# Altium schematic symbol library K60_144.SchLib: 2 symbols
Pins are listed as number, name and electrical type; pins without a type are passive.

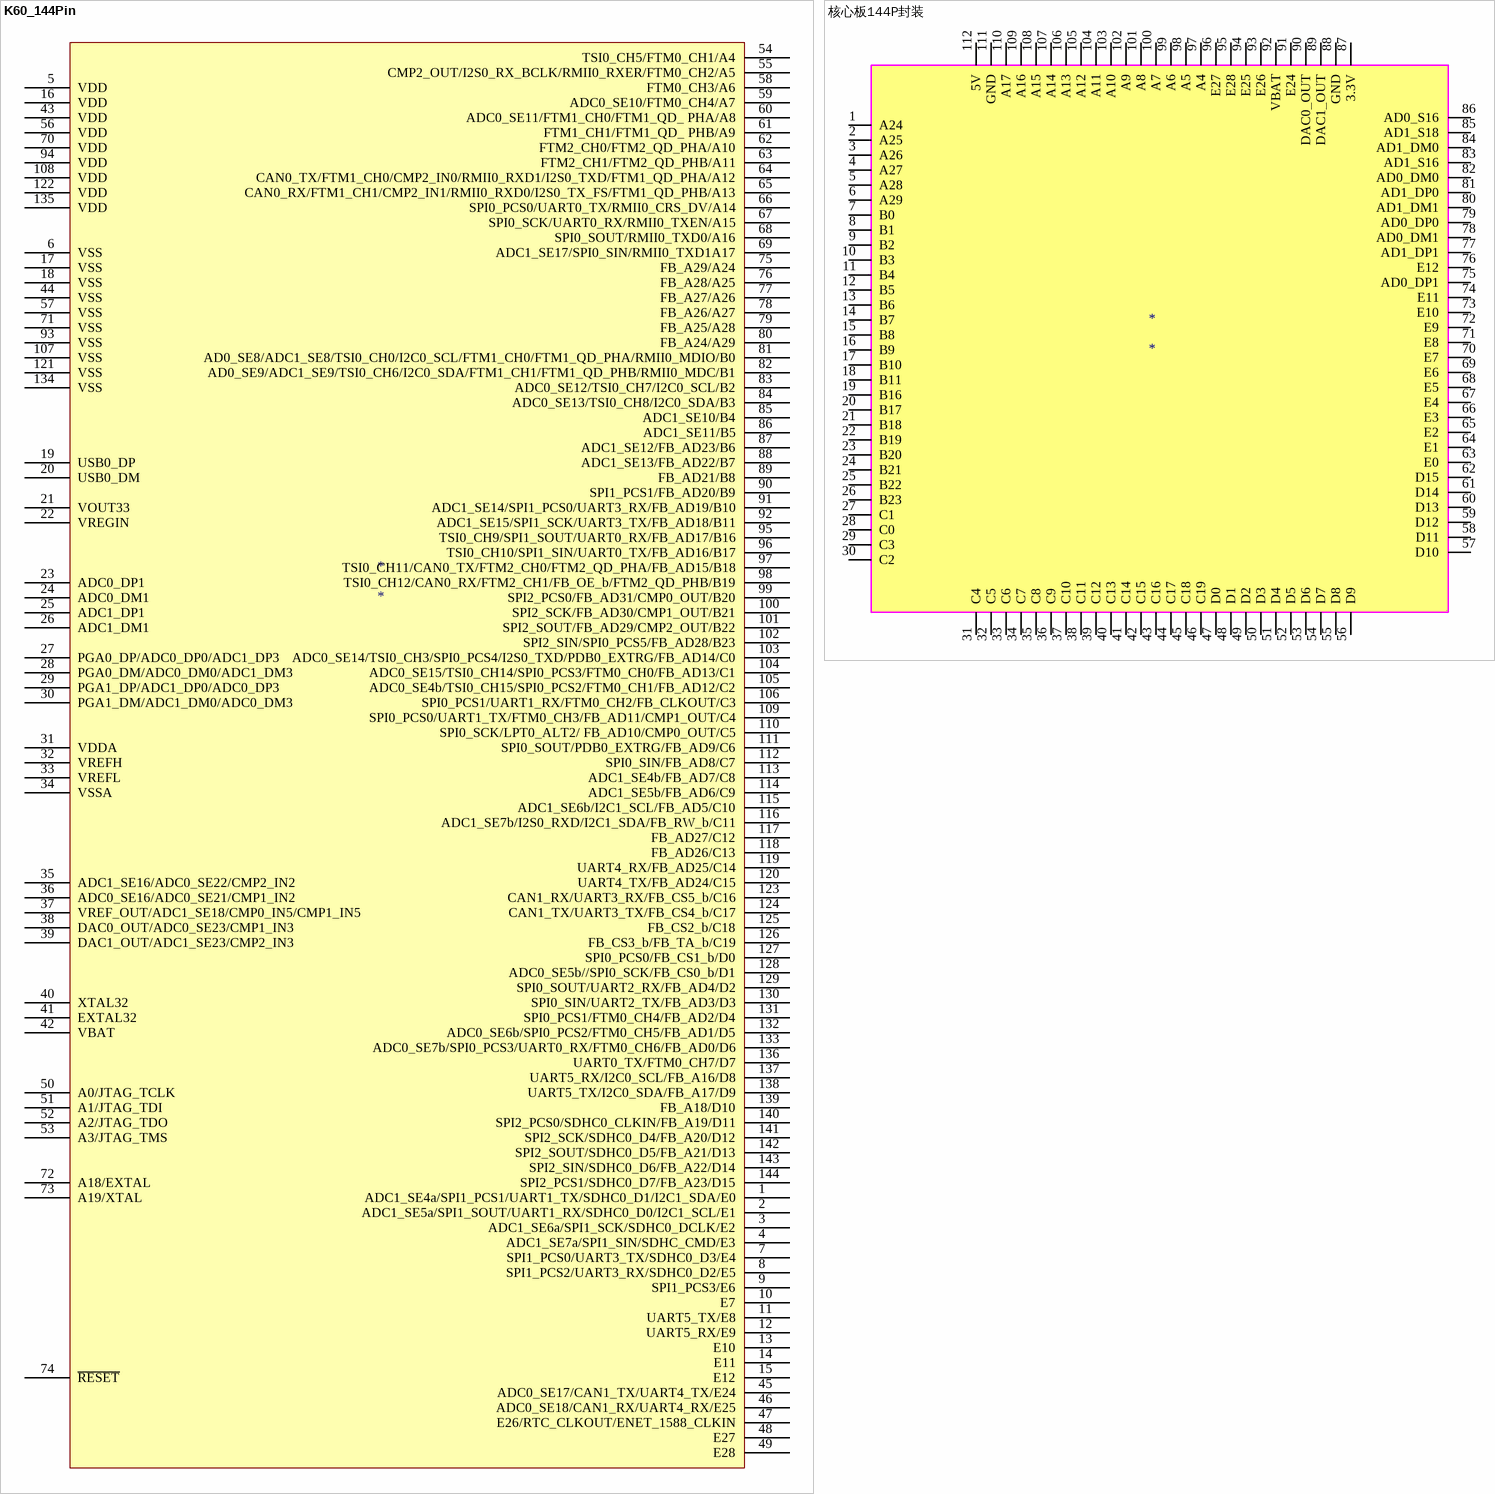
[diagram p0: symbols K60_144Pin to 核心板144P封装]

## K60_144Pin
designator *
pins: 1 ADC1_SE4a/SPI1_PCS1/UART1_TX/SDHC0_D1/I2C1_SDA/E0, 2 ADC1_SE5a/SPI1_SOUT/UART1_RX/SDHC0_D0/I2C1_SCL/E1, 3 ADC1_SE6a/SPI1_SCK/SDHC0_DCLK/E2, 4 ADC1_SE7a/SPI1_SIN/SDHC_CMD/E3, 5 VDD, 6 VSS, 7 SPI1_PCS0/UART3_TX/SDHC0_D3/E4, 8 SPI1_PCS2/UART3_RX/SDHC0_D2/E5, 9 SPI1_PCS3/E6, 10 E7, 11 UART5_TX/E8, 12 UART5_RX/E9, 13 E10, 14 E11, 15 E12, 16 VDD, 17 VSS, 18 VSS, 19 USB0_DP, 20 USB0_DM, 21 VOUT33, 22 VREGIN, 23 ADC0_DP1, 24 ADC0_DM1, 25 ADC1_DP1, 26 ADC1_DM1, 27 PGA0_DP/ADC0_DP0/ADC1_DP3, 28 PGA0_DM/ADC0_DM0/ADC1_DM3, 29 PGA1_DP/ADC1_DP0/ADC0_DP3, 30 PGA1_DM/ADC1_DM0/ADC0_DM3, 31 VDDA, 32 VREFH, 33 VREFL, 34 VSSA, 35 ADC1_SE16/ADC0_SE22/CMP2_IN2, 36 ADC0_SE16/ADC0_SE21/CMP1_IN2, 37 VREF_OUT/ADC1_SE18/CMP0_IN5/CMP1_IN5, 38 DAC0_OUT/ADC0_SE23/CMP1_IN3, 39 DAC1_OUT/ADC1_SE23/CMP2_IN3, 40 XTAL32, 41 EXTAL32, 42 VBAT, 43 VDD, 44 VSS, 45 ADC0_SE17/CAN1_TX/UART4_TX/E24, 46 ADC0_SE18/CAN1_RX/UART4_RX/E25, 47 E26/RTC_CLKOUT/ENET_1588_CLKIN, 48 E27, 49 E28, 50 A0/JTAG_TCLK, 51 A1/JTAG_TDI, 52 A2/JTAG_TDO, 53 A3/JTAG_TMS, 54 TSI0_CH5/FTM0_CH1/A4, 55 CMP2_OUT/I2S0_RX_BCLK/RMII0_RXER/FTM0_CH2/A5, 56 VDD, 57 VSS, 58 FTM0_CH3/A6, 59 ADC0_SE10/FTM0_CH4/A7, 60 ADC0_SE11/FTM1_CH0/FTM1_QD_ PHA/A8, 61 FTM1_CH1/FTM1_QD_ PHB/A9, 62 FTM2_CH0/FTM2_QD_PHA/A10, 63 FTM2_CH1/FTM2_QD_PHB/A11, 64 CAN0_TX/FTM1_CH0/CMP2_IN0/RMII0_RXD1/I2S0_TXD/FTM1_QD_PHA/A12, 65 CAN0_RX/FTM1_CH1/CMP2_IN1/RMII0_RXD0/I2S0_TX_FS/FTM1_QD_PHB/A13, 66 SPI0_PCS0/UART0_TX/RMII0_CRS_DV/A14, 67 SPI0_SCK/UART0_RX/RMII0_TXEN/A15, 68 SPI0_SOUT/RMII0_TXD0/A16, 69 ADC1_SE17/SPI0_SIN/RMII0_TXD1A17, 70 VDD, 71 VSS, 72 A18/EXTAL, 73 A19/XTAL, 74 ~{RESET}, 75 FB_A29/A24, 76 FB_A28/A25, 77 FB_A27/A26, 78 FB_A26/A27, 79 FB_A25/A28, 80 FB_A24/A29, 81 AD0_SE8/ADC1_SE8/TSI0_CH0/I2C0_SCL/FTM1_CH0/FTM1_QD_PHA/RMII0_MDIO/B0, 82 AD0_SE9/ADC1_SE9/TSI0_CH6/I2C0_SDA/FTM1_CH1/FTM1_QD_PHB/RMII0_MDC/B1, 83 ADC0_SE12/TSI0_CH7/I2C0_SCL/B2, 84 ADC0_SE13/TSI0_CH8/I2C0_SDA/B3, 85 ADC1_SE10/B4, 86 ADC1_SE11/B5, 87 ADC1_SE12/FB_AD23/B6, 88 ADC1_SE13/FB_AD22/B7, 89 FB_AD21/B8, 90 SPI1_PCS1/FB_AD20/B9, 91 ADC1_SE14/SPI1_PCS0/UART3_RX/FB_AD19/B10, 92 ADC1_SE15/SPI1_SCK/UART3_TX/FB_AD18/B11, 93 VSS, 94 VDD, 95 TSI0_CH9/SPI1_SOUT/UART0_RX/FB_AD17/B16, 96 TSI0_CH10/SPI1_SIN/UART0_TX/FB_AD16/B17, 97 TSI0_CH11/CAN0_TX/FTM2_CH0/FTM2_QD_PHA/FB_AD15/B18, 98 TSI0_CH12/CAN0_RX/FTM2_CH1/FB_OE_b/FTM2_QD_PHB/B19, 99 SPI2_PCS0/FB_AD31/CMP0_OUT/B20, 100 SPI2_SCK/FB_AD30/CMP1_OUT/B21, 101 SPI2_SOUT/FB_AD29/CMP2_OUT/B22, 102 SPI2_SIN/SPI0_PCS5/FB_AD28/B23, 103 ADC0_SE14/TSI0_CH3/SPI0_PCS4/I2S0_TXD/PDB0_EXTRG/FB_AD14/C0, 104 ADC0_SE15/TSI0_CH14/SPI0_PCS3/FTM0_CH0/FB_AD13/C1, 105 ADC0_SE4b/TSI0_CH15/SPI0_PCS2/FTM0_CH1/FB_AD12/C2, 106 SPI0_PCS1/UART1_RX/FTM0_CH2/FB_CLKOUT/C3, 107 VSS, 108 VDD, 109 SPI0_PCS0/UART1_TX/FTM0_CH3/FB_AD11/CMP1_OUT/C4, 110 SPI0_SCK/LPT0_ALT2/ FB_AD10/CMP0_OUT/C5, 111 SPI0_SOUT/PDB0_EXTRG/FB_AD9/C6, 112 SPI0_SIN/FB_AD8/C7, 113 ADC1_SE4b/FB_AD7/C8, 114 ADC1_SE5b/FB_AD6/C9, 115 ADC1_SE6b/I2C1_SCL/FB_AD5/C10, 116 ADC1_SE7b/I2S0_RXD/I2C1_SDA/FB_RW_b/C11, 117 FB_AD27/C12, 118 FB_AD26/C13, 119 UART4_RX/FB_AD25/C14, 120 UART4_TX/FB_AD24/C15, 121 VSS, 122 VDD, 123 CAN1_RX/UART3_RX/FB_CS5_b/C16, 124 CAN1_TX/UART3_TX/FB_CS4_b/C17, 125 FB_CS2_b/C18, 126 FB_CS3_b/FB_TA_b/C19, 127 SPI0_PCS0/FB_CS1_b/D0, 128 ADC0_SE5b//SPI0_SCK/FB_CS0_b/D1, 129 SPI0_SOUT/UART2_RX/FB_AD4/D2, 130 SPI0_SIN/UART2_TX/FB_AD3/D3, 131 SPI0_PCS1/FTM0_CH4/FB_AD2/D4, 132 ADC0_SE6b/SPI0_PCS2/FTM0_CH5/FB_AD1/D5, 133 ADC0_SE7b/SPI0_PCS3/UART0_RX/FTM0_CH6/FB_AD0/D6, 134 VSS, 135 VDD, 136 UART0_TX/FTM0_CH7/D7, 137 UART5_RX/I2C0_SCL/FB_A16/D8, 138 UART5_TX/I2C0_SDA/FB_A17/D9, 139 FB_A18/D10, 140 SPI2_PCS0/SDHC0_CLKIN/FB_A19/D11, 141 SPI2_SCK/SDHC0_D4/FB_A20/D12, 142 SPI2_SOUT/SDHC0_D5/FB_A21/D13, 143 SPI2_SIN/SDHC0_D6/FB_A22/D14, 144 SPI2_PCS1/SDHC0_D7/FB_A23/D15

## 核心板144P封装
designator *
pins: 1 A24, 2 A25, 3 A26, 4 A27, 5 A28, 6 A29, 7 B0, 8 B1, 9 B2, 10 B3, 11 B4, 12 B5, 13 B6, 14 B7, 15 B8, 16 B9, 17 B10, 18 B11, 19 B16, 20 B17, 21 B18, 22 B19, 23 B20, 24 B21, 25 B22, 26 B23, 27 C1, 28 C0, 29 C3, 30 C2, 31 C4, 32 C5, 33 C6, 34 C7, 35 C8, 36 C9, 37 C10, 38 C11, 39 C12, 40 C13, 41 C14, 42 C15, 43 C16, 44 C17, 45 C18, 46 C19, 47 D0, 48 D1, 49 D2, 50 D3, 51 D4, 52 D5, 53 D6, 54 D7, 55 D8, 56 D9, 57 D10, 58 D11, 59 D12, 60 D13, 61 D14, 62 D15, 63 E0, 64 E1, 65 E2, 66 E3, 67 E4, 68 E5, 69 E6, 70 E7, 71 E8, 72 E9, 73 E10, 74 E11, 75 AD0_DP1, 76 E12, 77 AD1_DP1, 78 AD0_DM1, 79 AD0_DP0, 80 AD1_DM1, 81 AD1_DP0, 82 AD0_DM0, 83 AD1_S16, 84 AD1_DM0, 85 AD1_S18, 86 AD0_S16, 87 3.3V, 88 GND, 89 DAC1_OUT, 90 DAC0_OUT, 91 E24, 92 VBAT, 93 E26, 94 E25, 95 E28, 96 E27, 97 A4, 98 A5, 99 A6, 100 A7, 101 A8, 102 A9, 103 A10, 104 A11, 105 A12, 106 A13, 107 A14, 108 A15, 109 A16, 110 A17, 111 GND, 112 5V